# EAGLE library part PIC18F4580_TQFP (library 000001)
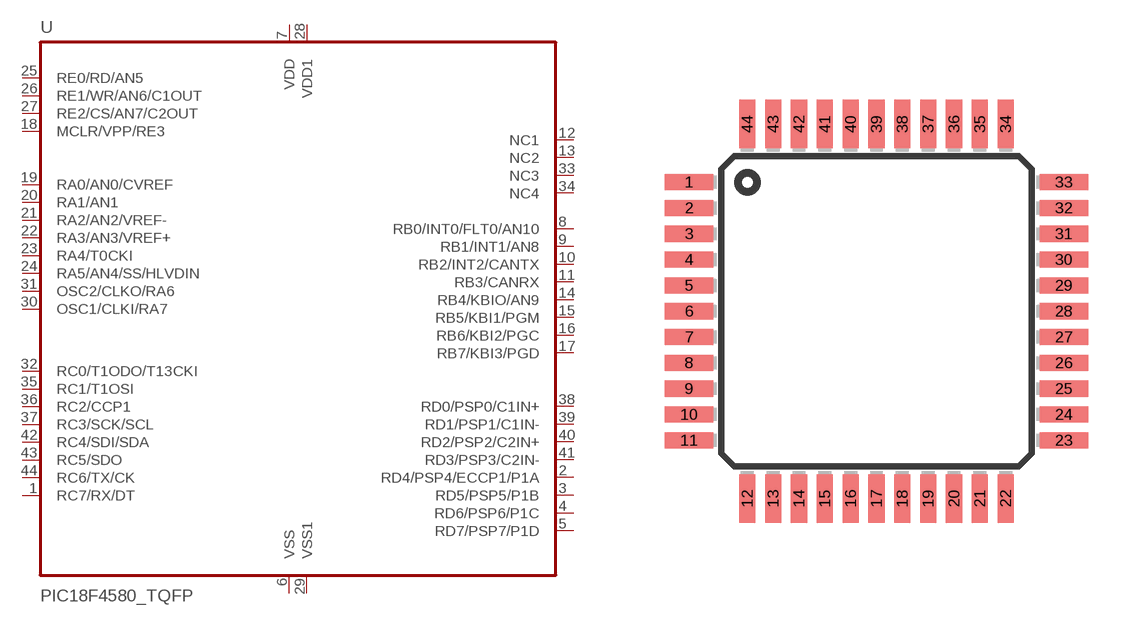
[diagram p35: symbol with the pads of TQFP44; footprint TQFP44]

Designator prefix -

## PIC18F4580_TQFP  [TQFP44]
1  RC7/RX/DT
2  RD4/PSP4/ECCP1/P1A
3  RD5/PSP5/P1B
4  RD6/PSP6/P1C
5  RD7/PSP7/P1D
6  VSS  pwr
7  VDD  pwr
8  RB0/INT0/FLT0/AN10
9  RB1/INT1/AN8
10  RB2/INT2/CANTX
11  RB3/CANRX
12  NC1  nc
13  NC2  nc
14  RB4/KBIO/AN9
15  RB5/KBI1/PGM
16  RB6/KBI2/PGC
17  RB7/KBI3/PGD
18  MCLR/VPP/RE3
19  RA0/AN0/CVREF
20  RA1/AN1
21  RA2/AN2/VREF-
22  RA3/AN3/VREF+
23  RA4/T0CKI
24  RA5/AN4/SS/HLVDIN
25  RE0/RD/AN5
26  RE1/WR/AN6/C1OUT
27  RE2/CS/AN7/C2OUT
28  VDD1  pwr
29  VSS1  pwr
30  OSC1/CLKI/RA7
31  OSC2/CLKO/RA6
32  RC0/T1ODO/T13CKI
33  NC3  nc
34  NC4  nc
35  RC1/T1OSI
36  RC2/CCP1
37  RC3/SCK/SCL
38  RD0/PSP0/C1IN+
39  RD1/PSP1/C1IN-
40  RD2/PSP2/C2IN+
41  RD3/PSP3/C2IN-
42  RC4/SDI/SDA
43  RC5/SDO
44  RC6/TX/CK

## Footprint TQFP44 (pad centres in mm)
Thin Quad Flat Pack package type TQ
smd 1.5 x 0.5: 1 -5.8,4; 2 -5.8,3.2; 3 -5.8,2.4; 4 -5.8,1.6; 5 -5.8,0.8; 6 -5.8,0; 7 -5.8,-0.8; 8 -5.8,-1.6; 9 -5.8,-2.4; 10 -5.8,-3.2; 11 -5.8,-4; 23 5.8,-4; 24 5.8,-3.2; 25 5.8,-2.4; 26 5.8,-1.6; 27 5.8,-0.8; 28 5.8,0; 29 5.8,0.8; 30 5.8,1.6; 31 5.8,2.4; 32 5.8,3.2; 33 5.8,4
smd 0.5 x 1.5: 12 -4,-5.8; 13 -3.2,-5.8; 14 -2.4,-5.8; 15 -1.6,-5.8; 16 -0.8,-5.8; 17 0,-5.8; 18 0.8,-5.8; 19 1.6,-5.8; 20 2.4,-5.8; 21 3.2,-5.8; 22 4,-5.8; 34 4,5.8; 35 3.2,5.8; 36 2.4,5.8; 37 1.6,5.8; 38 0.8,5.8; 39 0,5.8; 40 -0.8,5.8; 41 -1.6,5.8; 42 -2.4,5.8; 43 -3.2,5.8; 44 -4,5.8